# Altium footprint library mechanical_ITS_v1.PcbLib: 1 footprints
Each footprint in its own frame and in the unit in brackets; x right, y up, seen from the top. Pads: shape width x height; smd on the part's side, far side on the other; paste and mask are expansions set on the pad; w line width, h text height; cw(c..) or ccw(c..) is an arc to the next point about the centre after c.
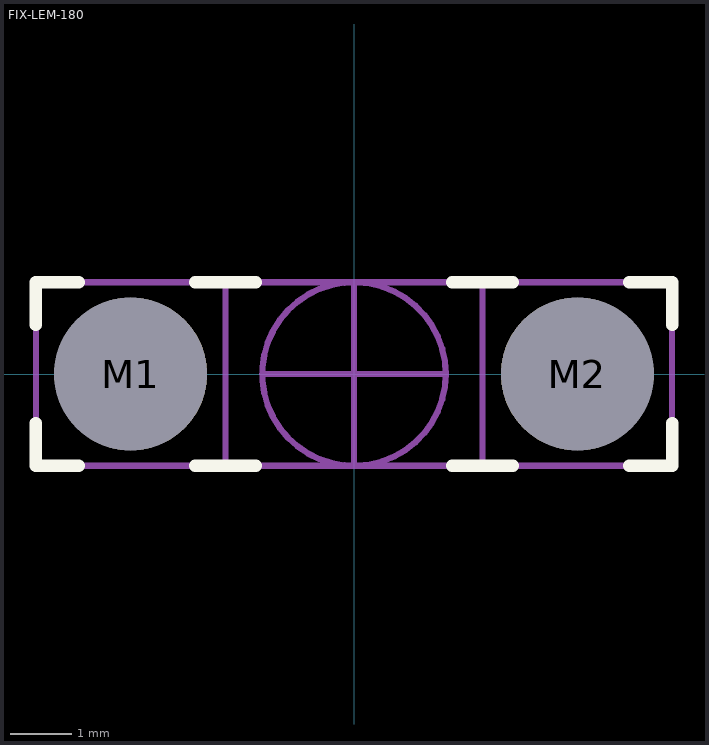
[diagram p0: the footprint, top view; thin cyan lines are the x and y axes]

## FIX-LEM-180 [mm] "LED  fiber"
pads (2):
  round 2.5 hole 2.5 unplated paste-1.25: M1(-3.65,0) M2(3.65,0)
Top Overlay:
  lines w0.2: -5.2,-0.8 -5.2,-1.5 -4.5,-1.5 ; -5.2,0.8 -5.2,1.5 -4.5,1.5 ; -2.6,-1.5 -1.6,-1.5 ; -2.6,1.5 -1.6,1.5 ; 1.6,-1.5 2.6,-1.5 ; 1.6,1.5 2.6,1.5 ; 4.5,-1.5 5.2,-1.5 5.2,-0.8 ; 4.5,1.5 5.2,1.5 5.2,0.8
Mechanical 15:
  circle w0.1: c0,0 r1.5
  lines w0.1: -2.1,-1.5 -2.1,1.5 ; -1.5,0 0,0 ; 0,-1.5 0,0 ; 0,1.5 0,0 ; 1.5,0 0,0 ; 2.1,-1.5 2.1,1.5 ; -5.2,-1.5 -5.2,1.5 5.2,1.5 5.2,-1.5 -5.2,-1.5
3D body "FLEX-LEM-180.STEP": height 15.01, standoff -1.99, extent -5.15,-1.5 5.15,1.5